# Altium schematic symbol library PCB_Project.SCHLIB: 21 symbols
Pins are listed as number, name and electrical type; pins without a type are passive.

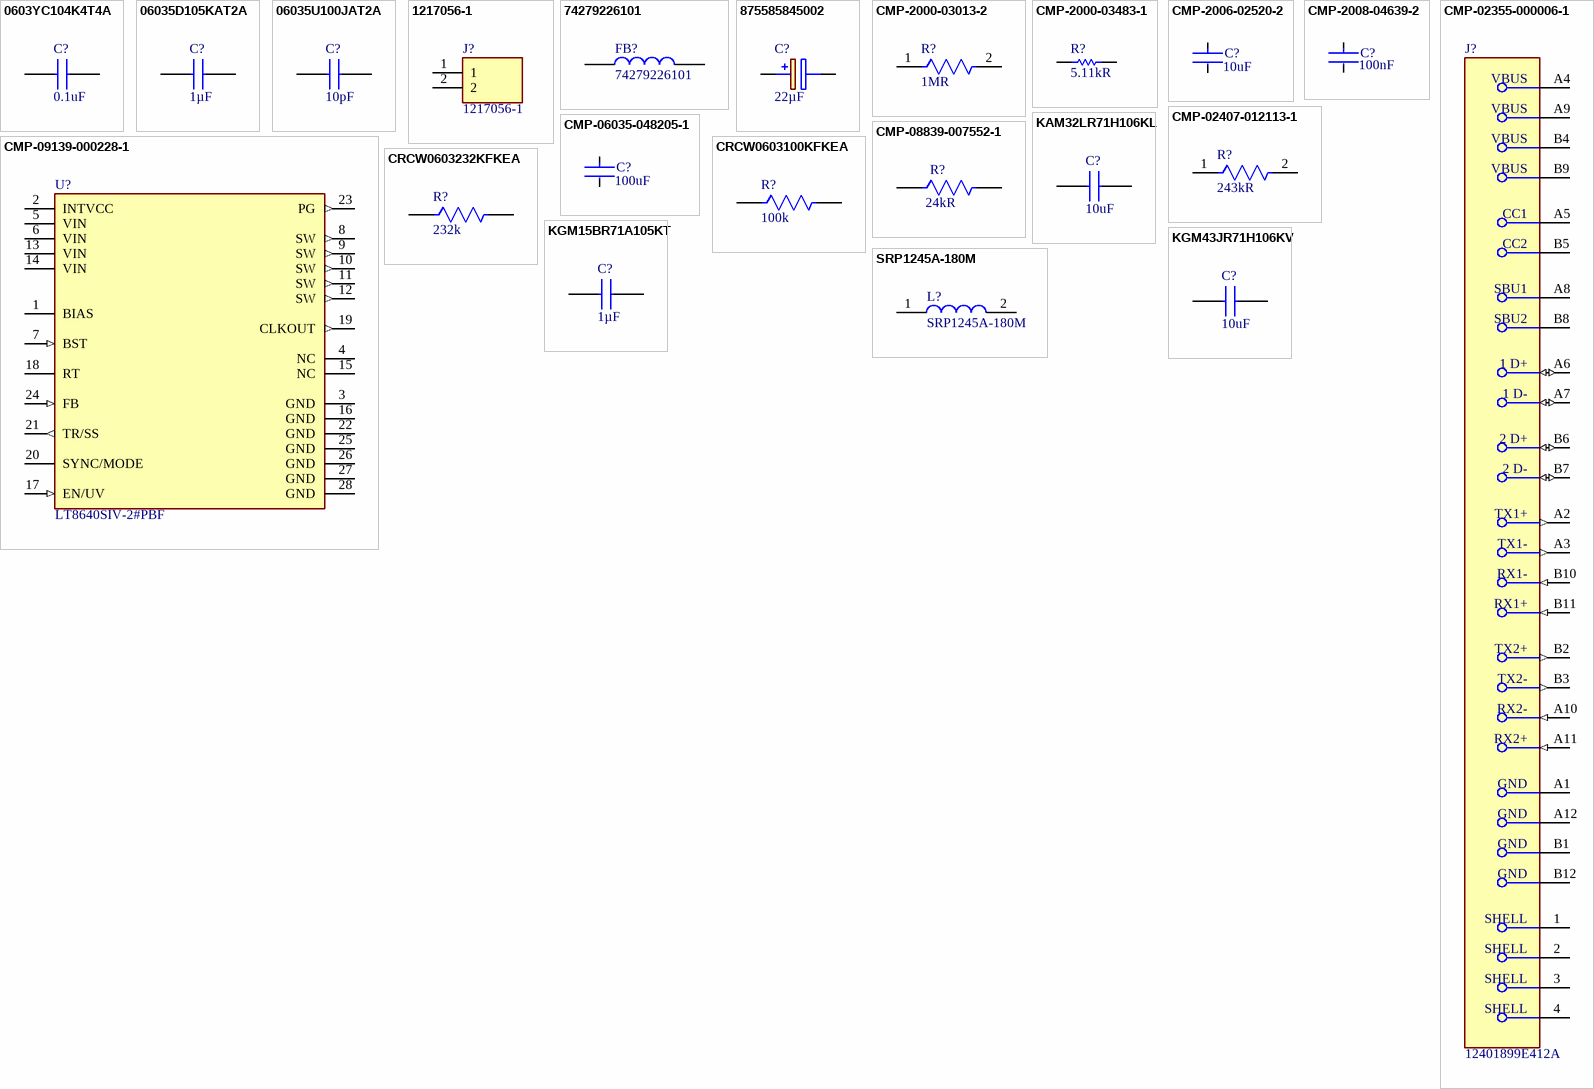
[diagram p0: symbols 0603YC104K4T4A to SRP1245A-180M]

## 0603YC104K4T4A
designator C?  value 0.1uF  (hidden comment: 0603YC104K4T4A)
Capacitor; Manufacturer_Name: Kyocera AVX; Datasheet Link: https://componentsearchengine.com/Datasheets/1/06031A100FAT2A.pdf; Height: 0.9mm; Manufacturer_Part_Number: 0603YC104K4T4A; Mouser Part Number: 581-0603YC104K4T4A; Mouser Price/Stock: https://www.mouser.co.uk/ProductDetail/KYOCERA-AVX/0603YC104K4T4A?qs=Cej1j9ztgjEkPqVJkA4Bng%3D%3D; Arrow Part Number: 0603YC104K4T4A; Arrow Price/Stock: https://www.arrow.com/en/products/0603yc104k4t4a/avx?utm_currency=USD&region=nac
footprint CAPC1608X90N
pins: 1, 2

## 06035D105KAT2A
designator C?  value 1µF  (hidden comment: 06035D105KAT2A)
Capacitor; Manufacturer_Name: Kyocera AVX; Datasheet Link: https://componentsearchengine.com/Datasheets/1/06031A100FAT2A.pdf; Height: 0.9mm; Manufacturer_Part_Number: 06035D105KAT2A; Mouser Part Number: 581-06035D105KAT2A; Mouser Price/Stock: https://www.mouser.co.uk/ProductDetail/AVX/06035D105KAT2A?qs=jHkklCh7amj4RS3QGB%2FJvQ%3D%3D; Arrow Part Number: 06035D105KAT2A; Arrow Price/Stock: https://www.arrow.com/en/products/06035d105kat2a/avx
footprint CAPC1608X90N
pins: 1, 2

## 06035U100JAT2A
designator C?  value 10pF  (hidden comment: 06035U100JAT2A)
Capacitor; Manufacturer_Name: Kyocera AVX; Datasheet Link: https://componentsearchengine.com/Datasheets/1/06031A100FAT2A.pdf; Height: 0.9mm; Manufacturer_Part_Number: 06035U100JAT2A
footprint CAPC1608X90N
pins: 1, 2

## 1217056-1
designator J?
Connector; Manufacturer_Name: TE Connectivity; Datasheet Link: https://www.te.com/commerce/DocumentDelivery/DDEController?Action=srchrtrv&DocNm=82159_PCB_TERMINALS_AND_DISCONNECTS&DocType=Catalog%20Section&DocLang=English&PartCntxt=1217056-1&DocFormat=pdf; Height: 13mm; Manufacturer_Part_Number: 1217056-1; Mouser Part Number: 571-1217056-1; Mouser Price/Stock: https://www.mouser.co.uk/ProductDetail/TE-Connectivity-AMP/1217056-1?qs=yW2XQG1Ii9EcBJhZ77Yj5A%3D%3D; Arrow Part Number: 1217056-1; Arrow Price/Stock: https://www.arrow.com/en/products/1217056-1/te-connectivity?utm_currency=USD&region=europe
footprint 12170561
pins: 1, 2

## 74279226101
designator FB?
Inductor; Manufacturer_Name: Wurth Elektronik; Datasheet Link: http://componentsearchengine.com/Datasheets/1/74279226101.pdf; Manufacturer_Part_Number: 74279226101; Mouser Part Number: 710-74279226101; Mouser Price/Stock: https://www.mouser.co.uk/ProductDetail/Wurth-Elektronik/74279226101?qs=cFlH0mFHHFoXMLq8ANMOrg%3D%3D
footprint WE-MPSB_181252
pins: 1, 2

## 875585845002
designator C?  value 22µF  (hidden comment: 875585845002)
Capacitor Polarised; Manufacturer_Name: Wurth Elektronik; Datasheet Link: https://www.we-online.com/components/products/datasheet/875585845002.pdf; Height: 8mm; Manufacturer_Part_Number: 875585845002; Mouser Part Number: 710-875585845002; Mouser Price/Stock: https://www.mouser.co.uk/ProductDetail/Wurth-Elektronik/875585845002?qs=9vOqFld9vZXZunBiCR9wnA%3D%3D
footprint CAPAE660X800N
pins: 1 +, 2 -

## CMP-2000-03013-2
designator R?, comment Resistance: 1MR  (hidden comment: CRCW06031M00FKEA)
RES Thick Film, 1MΩ, 1%, 0.1W, 100ppm/°C, 0603; Max Power Dissipation: 100mW; Voltage Rating (DC): 75V; Depth: 0.85mm; Max Operating Temperature: 155°C; Length: 1.55mm; Power Rating: 100mW; Military Standard: Not; Features: Automotive AEC-Q200; Min Operating Temperature: -55°C; Number of Pins: 2; Mount: Surface Mount; Package Quantity: 10; Packaging: Tape and Reel; Height: 0.45mm; Radiation Hardening: No; Case Code (Metric): 1608; Temperature Coefficient: 100ppm/°C; Width: 0.85mm; Composition: Thick Film; Termination: SMD/SMT; Tolerance: 1%; Number of Terminations: 2; Lead Free: Lead Free; Contact Plating: Tin; Case/Package: 0603; Weight: 7.1E-05oz; Voltage Rating: 75V; Case Code (Imperial): 0603
footprint FP-CRCW0603-e3-MFG
footprint FP-CRCW0603-e3-IPC_A
footprint FP-CRCW0603-e3-IPC_C
footprint FP-CRCW0603-e3-IPC_B
pins: 1, 2

## CMP-2000-03483-1
designator R?, comment value 5.11kR  (hidden comment: CRCW06035K11FKTA)
Manufacturer: Vishay Dale; Part Number: CRCW06035K11FKTA
footprint RESC1609X50X30NL10T20 (Chip Resistor, 2-Leads, Body 1.55x0.85mm, IPC Medium Density)
footprint RESC1609X50X30ML10T20 (Chip Resistor, 2-Leads, Body 1.55x0.85mm, IPC Low Density)
footprint RESC1609X50X30LL10T20 (Chip Resistor, 2-Leads, Body 1.55x0.85mm, IPC High Density)
pins: 1, 2
1 alternate drawing of the same symbol

## CMP-2006-02520-2
designator C?, comment Capacitance: 10uF  (hidden comment: GRM188R61E106MA73D)
Chip Multilayer Ceramic Capacitors for General Purpose, 0603, 10uF, X5R, 15%, 20%, 25V; Tolerance: 20%; Resistor Type: Ceramic; Voltage: 25V; Max Operating Temperature: 85°C; Min Operating Temperature: -55°C; Dielectric: X5R; Lead Free: Lead Free; REACH SVHC: No SVHC; Case/Package: 0603; Mount: Surface Mount; Voltage Rating (DC): 25V; Height: 0.8mm; Length: 1.6mm; Thickness: 0.031inch; Width: 0.031inch; Termination: SMD/SMT; Case Code (Imperial): 0603; Case Code (Metric): 1608; Package Quantity: 1; Packaging: Tape and Reel; Depth: 0.8mm; Voltage Rating: 25V; Weight: 0.000222oz; Number of Pins: 2
footprint FP-GRM188-0_2-MFG
footprint FP-GRM188-0_2-IPC_B
footprint FP-GRM188-0_2-IPC_C
footprint FP-GRM188-0_2-IPC_A
pins: 1, 2

## CMP-2008-04639-2
designator C?, comment Capacitance: 100nF  (hidden comment: GRM155R71H104KE14D)
Chip Multilayer Ceramic Capacitors for General Purpose, 0402, 0.10uF, X7R, 15%, 10%, 50V; Dissipation Factor: 0.025%; Weight: 0.000212oz; Thickness: 0.022inch; Voltage Rating (DC): 50V; Dielectric Material: Ceramic; Termination: SMD/SMT; Case/Package: 0402; Case Code (Imperial): 0402; Mount: Surface Mount; REACH SVHC: No SVHC; Resistor Type: Ceramic; Dielectric: X7R; Max Operating Temperature: 125°C; Voltage: 50V; Lead Free: Lead Free; Package Quantity: 10000; Packaging: Tape and Reel; Length: 1mm; Material: Ceramic; Height: 0.5mm; Depth: 0.5mm; Width: 0.5mm; Min Operating Temperature: -55°C; Tolerance: 10%; Case Code (Metric): 1005; Voltage Rating: 50V
footprint FP-GRM155-0_05-IPC_B
footprint FP-GRM155-0_05-IPC_A
footprint FP-GRM155-0_05-IPC_C
footprint FP-GRM155-0_05-MFG
pins: 1, 2

## CMP-02355-000006-1
designator J?, comment 12401899E412A
USB TYPE C, RECEPTACLE, TOP MOUN
footprint FP-12401899E412A-MFG
pins: 1 SHELL, 2 SHELL, 3 SHELL, 4 SHELL, A1 GND (power), A2 TX1+ (out), A3 TX1- (out), A4 VBUS (power), A5 CC1, A6 1 D+ (io), A7 1 D- (io), A8 SBU1, A9 VBUS (power), A10 RX2- (in), A11 RX2+ (in), A12 GND (power), B1 GND (power), B2 TX2+ (out), B3 TX2- (out), B4 VBUS (power), B5 CC2, B6 2 D+ (io), B7 2 D- (io), B8 SBU2, B9 VBUS (power), B10 RX1- (in), B11 RX1+ (in), B12 GND (power)

## CMP-02407-012113-1
designator R?, comment Resistance: 243kR  (hidden comment: CRCW0603243KFKEAHP)
RES Thick Film, 243kΩ, 1%, 0.33W, 100ppm/°C, 0603; Max Power Dissipation: 250mW; Case/Package: 0603; Min Operating Temperature: -55°C; Series: CRCW-HP; Resistor Type: Thick Film; Features: Automotive AEC-Q200; Number of Terminations: 2; Packaging: Tape and Reel; Lead Free: Lead Free; Max Operating Temperature: 155°C; Temperature Coefficient: 100ppm/°C; Width: 0.033inch; RoHS Compliant: Yes; Package Quantity: 5000; Tolerance: 1%; Height: 0.022inch; Length: 0.063inch
footprint FP-CRCW0603-HPe3-IPC_C
footprint FP-CRCW0603-HPe3-IPC_A
footprint FP-CRCW0603-HPe3-MFG
footprint FP-CRCW0603-HPe3-IPC_B
pins: 1, 2

## CMP-06035-048205-1
designator C?, comment Capacitance: 100uF  (hidden comment: GRM32ER61A107ME20L)
Chip Multilayer Ceramic Capacitors for General Purpose, 1210, 100uF, X5R, 15%, 20%, 10V; Dissipation Factor: 0.035%; Packaging: Tape and Reel; Width: 2.5mm; Case/Package: 1210; Min Operating Temperature: -55°C; Depth: 2.5mm; Package Quantity: 1000; Case Code (Imperial): 1210; Voltage Rating: 10V; Dielectric Material: Ceramic; Length: 3.2mm; Lead Free: Lead Free; REACH SVHC: No SVHC; Mount: Surface Mount; Height: 2.5mm; Voltage Rating (DC): 10V; Dielectric: X5R; Thickness: 0.106inch; Weight: 0.00388oz; Material: Ceramic; Termination: SMD/SMT; Tolerance: 20%; Case Code (Metric): 3225; Voltage: 10V; Max Operating Temperature: 85°C
footprint FP-GRM32E-0_3-0_2-IPC_B
footprint FP-GRM32E-0_3-0_2-IPC_A
footprint FP-GRM32E-0_3-0_2-IPC_C
footprint FP-GRM32E-0_3-0_2-MFG
pins: 1, 2

## CMP-08839-007552-1
designator R?, comment Resistance: 24kR  (hidden comment: ESR03EZPJ243)
24kΩ ±5% 0.25W 0603 Anti-Surge Chip Resistor AEC-Q200; Max Power Dissipation: 250mW; Temperature Coefficient: 200ppm/°C; Features: Automotive AEC-Q200; Package Quantity: 5000; RoHS Compliant: Yes; Width: 0.031inch; Packaging: Tape and Reel; Length: 0.063inch; Case/Package: 0603; Series: ESR; Resistor Type: Thick Film; Number of Terminations: 2; Max Operating Temperature: 155°C; Height: 0.022inch; Case Code (Metric): 1608; Tolerance: 5%; Min Operating Temperature: -55°C; Case Code (Imperial): 0603
footprint FP-ESR03-MFG
footprint FP-ESR03-IPC_C
footprint FP-ESR03-IPC_A
footprint FP-ESR03-IPC_B
pins: 1, 2

## CMP-09139-000228-1
designator U?, comment LT8640SIV-2#PBF
IC REG BUCK ADJUSTABLE 6A 24LQFN; RoHS Compliant: Yes
footprint FP-LQFN-24-05-08-1511-MFG
pins: 1 BIAS, 2 INTVCC (power), 3 GND (power), 4 NC, 5 VIN (power), 6 VIN (power), 7 BST (in), 8 SW (out), 9 SW (out), 10 SW (out), 11 SW (out), 12 SW (out), 13 VIN (power), 14 VIN (power), 15 NC, 16 GND (power), 17 EN/UV (in), 18 RT, 19 CLKOUT (out), 20 SYNC/MODE, 21 TR/SS (out), 22 GND (power), 23 PG (out), 24 FB (in), 25 GND (power), 26 GND (power), 27 GND (power), 28 GND (power)

## CRCW0603100KFKEA
designator R?  value 100k  (hidden comment: CRCW0603100KFKEA)
Resistor; Manufacturer_Name: Vishay; Datasheet Link: http://www.vishay.com/docs/20035/dcrcwe3.pdf; Height: 0.5mm; Manufacturer_Part_Number: CRCW0603100KFKEA; Mouser Part Number: 71-CRCW0603-100K-E3; Mouser Price/Stock: https://www.mouser.co.uk/ProductDetail/Vishay-Dale/CRCW0603100KFKEA?qs=6dqgS%252BKntICWHMMdIzt5%2FQ%3D%3D; Arrow Part Number: CRCW0603100KFKEA; Arrow Price/Stock: https://www.arrow.com/en/products/crcw0603100kfkea/vishay?utm_currency=USD&region=nac
footprint RESC1608X50N
pins: 1, 2

## CRCW0603232KFKEA
designator R?  value 232k  (hidden comment: CRCW0603232KFKEA)
Resistor; Manufacturer_Name: Vishay; Datasheet Link: http://www.vishay.com/docs/20035/dcrcwe3.pdf; Height: 0.5mm; Manufacturer_Part_Number: CRCW0603232KFKEA; Mouser Part Number: 71-CRCW0603-232K-E3; Mouser Price/Stock: https://www.mouser.co.uk/ProductDetail/Vishay-Dale/CRCW0603232KFKEA?qs=NHKSztHah43mx5UrSmXOxA%3D%3D; Arrow Part Number: CRCW0603232KFKEA; Arrow Price/Stock: https://www.arrow.com/en/products/crcw0603232kfkea/vishay
footprint RESC1608X50N
pins: 1, 2

## KAM32LR71H106KL
designator C?  value 10uF  (hidden comment: KAM32LR71H106KL)
Capacitor; Manufacturer_Name: Kyocera AVX; Datasheet Link: https://spicat.kyocera-avx.com/product/KAM32LR71H106KL; Height: 2.8mm; Manufacturer_Part_Number: KAM32LR71H106KL; Mouser Part Number: 581-KAM32LR71H106KL; Mouser Price/Stock: https://www.mouser.co.uk/ProductDetail/KYOCERA-AVX/KAM32LR71H106KL?qs=Jm2GQyTW%2FbgMjBEJHOJ9ig%3D%3D
footprint CAPC3325X280N
pins: 1, 2

## KGM15BR71A105KT
designator C?  value 1µF  (hidden comment: KGM15BR71A105KT)
Capacitor; Manufacturer_Name: Kyocera AVX; Datasheet Link: https://datasheets.kyocera-avx.com/KGM_X7R.pdf; Height: 0.95mm; Manufacturer_Part_Number: KGM15BR71A105KT
footprint CAPC1608X95N
pins: 1, 2

## KGM43JR71H106KV
designator C?  value 10uF  (hidden comment: KGM43JR71H106KV)
Capacitor; Manufacturer_Name: Kyocera AVX; Datasheet Link: https://datasheets.kyocera-avx.com/KGM_X7R.pdf; Height: 2.8mm; Manufacturer_Part_Number: KGM43JR71H106KV; Mouser Part Number: 581-KGM43JR71H106KV; Mouser Price/Stock: https://www.mouser.co.uk/ProductDetail/KYOCERA-AVX/KGM43JR71H106KV?qs=Jm2GQyTW%2FbgbK3VIRNTnpg%3D%3D
footprint CAPC4532X280N
pins: 1, 2

## SRP1245A-180M
designator L?
Inductor; Manufacturer_Name: Bourns; Datasheet Link: https://www.bourns.com/docs/Product-Datasheets/SRP1245A.pdf; Height: 5mm; Manufacturer_Part_Number: SRP1245A-180M; Mouser Part Number: 652-SRP1245A-180M; Mouser Price/Stock: https://www.mouser.co.uk/ProductDetail/Bourns/SRP1245A-180M?qs=7z%252BmIopC6%2FJMVrKhbhk5JQ%3D%3D; Arrow Part Number: SRP1245A-180M; Arrow Price/Stock: https://www.arrow.com/en/products/srp1245a-180m/bourns?region=europe
footprint INDPM135125X500N
pins: 1, 2